# Altium schematic symbol library SCH - POWER - MURATA -MGJ3T24150505MC-R7.SCHLIB: 1 symbol
Pins are listed as number, name and electrical type; pins without a type are passive.

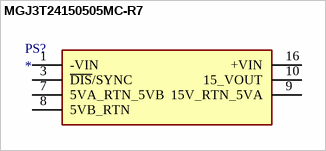
[diagram p0: symbol MGJ3T24150505MC-R7]

## MGJ3T24150505MC-R7
designator PS?
Power Supply
pins: 1 -VIN, 3 ~{DIS}/SYNC, 7 5VA_RTN_5VB, 8 5VB_RTN, 9 15V_RTN_5VA, 10 15_VOUT, 16 +VIN